# Altium integrated library Maxim Real-Time Clocks (RTCs).IntLib: 548 symbols (part 5 of 13)
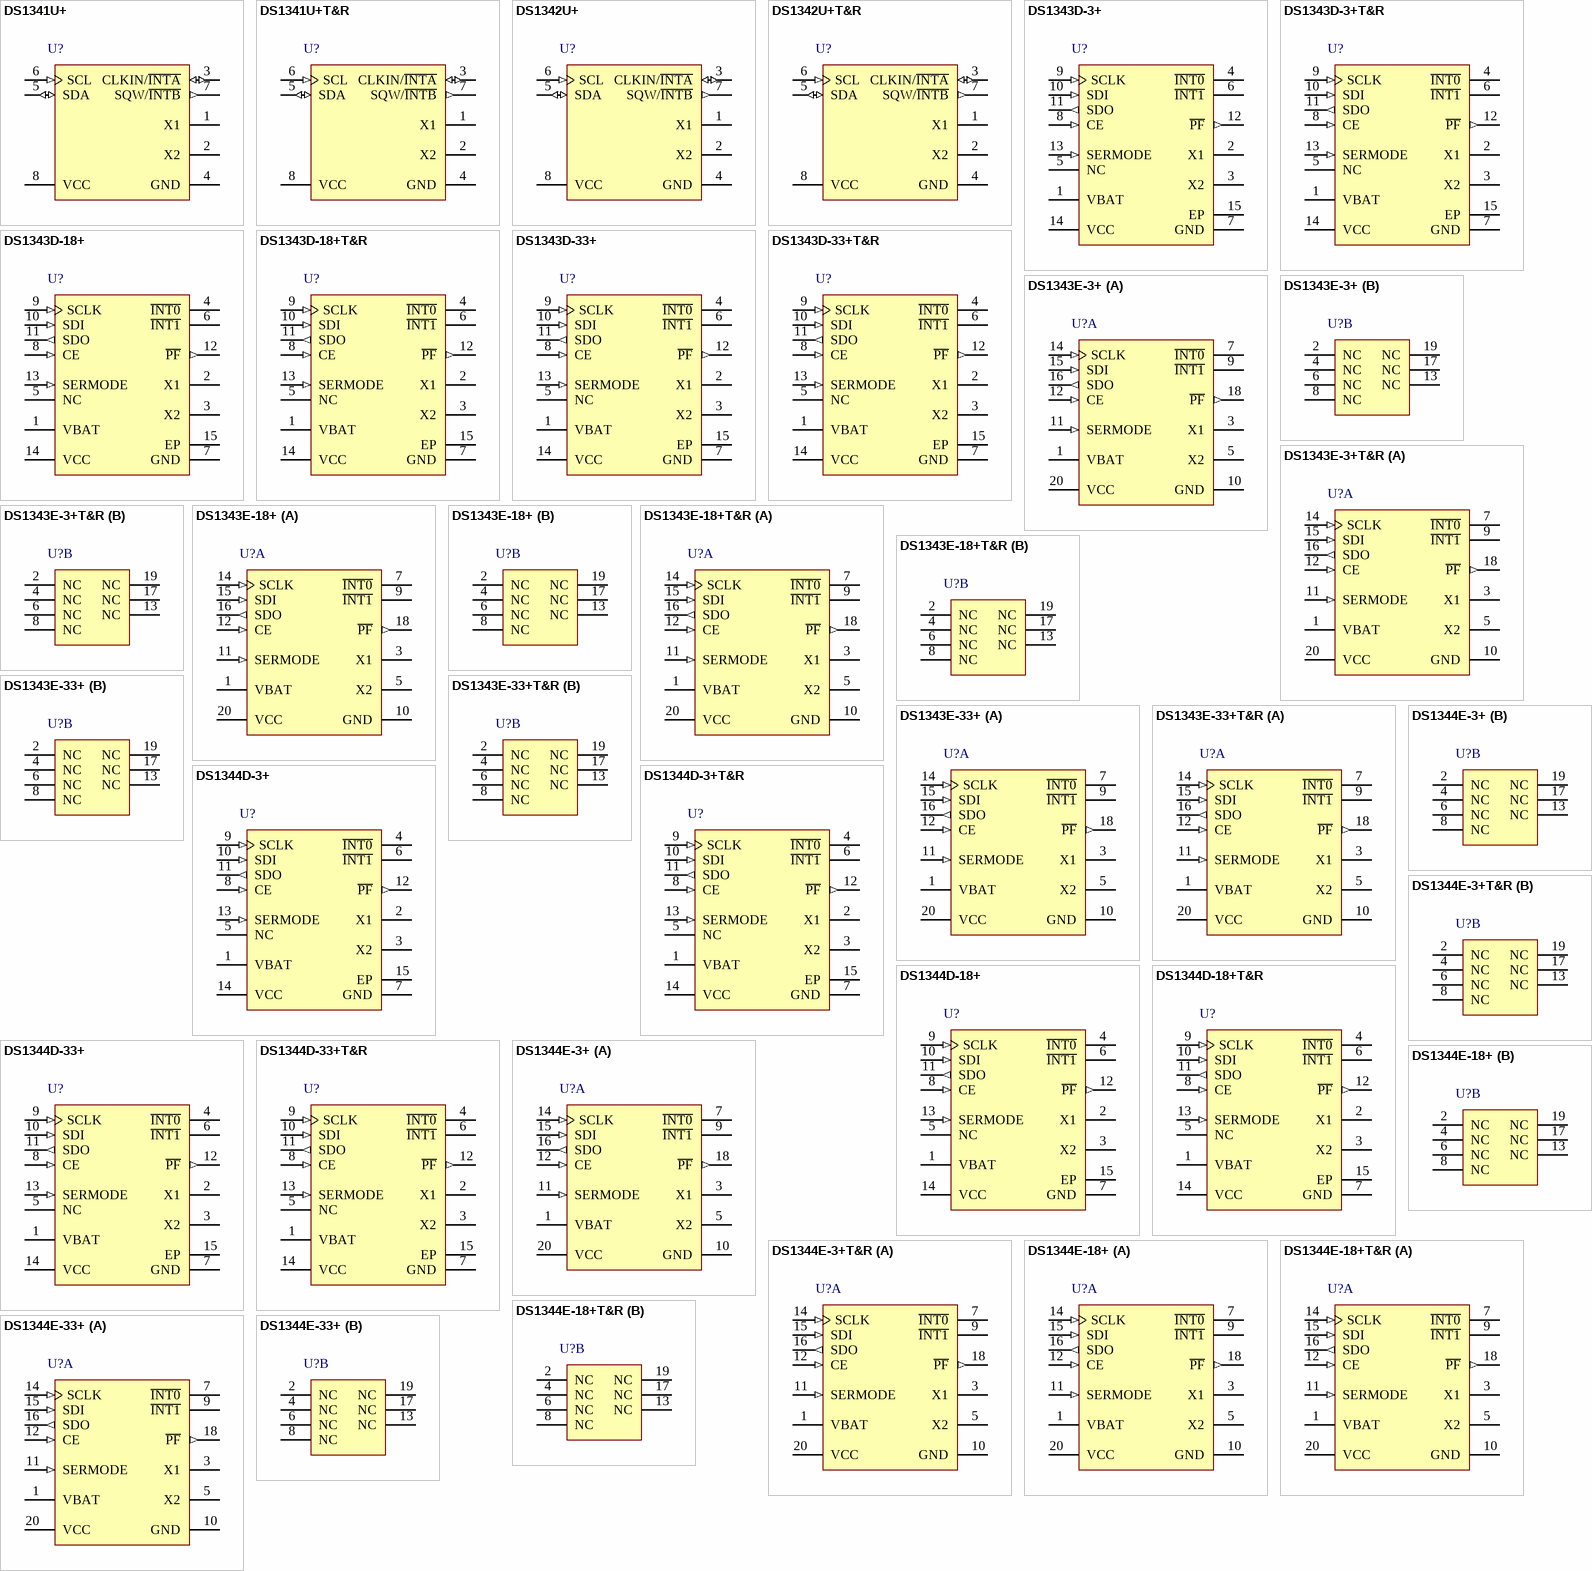
[diagram p25: symbols DS1341U+ to DS1344E-33+]

## DS1344D-18+
designator U?
Low-Current SPI/3-Wire Real-Time Clock, 1.8V, 14-Pin TDFN-EP, -40 to 85 degC, Pb-Free; DatasheetVersion: Rev 1, Dec-2011; PackageVersion: revJ, 2009; PackageReference: T1433+2; PackageDescription: 14-Pin Plastic Very Very Thin Dual Flatpack No Leads (TDFN-EP), 3 x 3 x 0.8 mm Body, 0.4 mm Pitch, Pb-Free; ComponentLink1Description: Manufacturer URL; ComponentLink1URL: http://www.maxim-ic.com; ComponentLink2Description: Datasheet; ComponentLink2URL: http://datasheets.maxim-ic.com/en/ds/DS1343-DS1344.pdf; ComponentLink3Description: Package Specification; ComponentLink3URL: http://pdfserv.maxim-ic.com/package_dwgs/21-0137.PDF
footprint T1433+2_V (SON, 14-Leads, Body 3x3mm, Pitch 0.4mm, Thermal Pad 2.35x1.78mm, Maxim Recommended)
pins: 1 VBAT (power), 2 X1, 3 X2, 4 ~{INT0} (oc), 5 NC, 6 ~{INT1} (oc), 7 GND (power), 8 CE (in), 9 SCLK (in), 10 SDI (in), 11 SDO (out), 12 ~{PF} (out), 13 SERMODE (in), 14 VCC (power), 15 EP (power)

## DS1344D-18+T&R
designator U?
Low-Current SPI/3-Wire Real-Time Clock, 1.8V, 14-Pin TDFN-EP, -40 to 85 degC, Pb-Free, Reel; DatasheetVersion: Rev 1, Dec-2011; PackageVersion: revJ, 2009; PackageReference: T1433+2; PackageDescription: 14-Pin Plastic Very Very Thin Dual Flatpack No Leads (TDFN-EP), 3 x 3 x 0.8 mm Body, 0.4 mm Pitch, Pb-Free; ComponentLink1Description: Manufacturer URL; ComponentLink1URL: http://www.maxim-ic.com; ComponentLink2Description: Datasheet; ComponentLink2URL: http://datasheets.maxim-ic.com/en/ds/DS1343-DS1344.pdf; ComponentLink3Description: Package Specification; ComponentLink3URL: http://pdfserv.maxim-ic.com/package_dwgs/21-0137.PDF
footprint T1433+2_V (SON, 14-Leads, Body 3x3mm, Pitch 0.4mm, Thermal Pad 2.35x1.78mm, Maxim Recommended)
pins: 1 VBAT (power), 2 X1, 3 X2, 4 ~{INT0} (oc), 5 NC, 6 ~{INT1} (oc), 7 GND (power), 8 CE (in), 9 SCLK (in), 10 SDI (in), 11 SDO (out), 12 ~{PF} (out), 13 SERMODE (in), 14 VCC (power), 15 EP (power)

## DS1344D-33+
designator U?
Low-Current SPI/3-Wire Real-Time Clock, 3.3V, 14-Pin TDFN-EP, -40 to 85 degC, Pb-Free; DatasheetVersion: Rev 1, Dec-2011; PackageVersion: revJ, 2009; PackageReference: T1433+2; PackageDescription: 14-Pin Plastic Very Very Thin Dual Flatpack No Leads (TDFN-EP), 3 x 3 x 0.8 mm Body, 0.4 mm Pitch, Pb-Free; ComponentLink1Description: Manufacturer URL; ComponentLink1URL: http://www.maxim-ic.com; ComponentLink2Description: Datasheet; ComponentLink2URL: http://datasheets.maxim-ic.com/en/ds/DS1343-DS1344.pdf; ComponentLink3Description: Package Specification; ComponentLink3URL: http://pdfserv.maxim-ic.com/package_dwgs/21-0137.PDF
footprint T1433+2_V (SON, 14-Leads, Body 3x3mm, Pitch 0.4mm, Thermal Pad 2.35x1.78mm, Maxim Recommended)
pins: 1 VBAT (power), 2 X1, 3 X2, 4 ~{INT0} (oc), 5 NC, 6 ~{INT1} (oc), 7 GND (power), 8 CE (in), 9 SCLK (in), 10 SDI (in), 11 SDO (out), 12 ~{PF} (out), 13 SERMODE (in), 14 VCC (power), 15 EP (power)

## DS1344D-33+T&R
designator U?
Low-Current SPI/3-Wire Real-Time Clock, 3.3V, 14-Pin TDFN-EP, -40 to 85 degC, Pb-Free, Reel; DatasheetVersion: Rev 1, Dec-2011; PackageVersion: revJ, 2009; PackageReference: T1433+2; PackageDescription: 14-Pin Plastic Very Very Thin Dual Flatpack No Leads (TDFN-EP), 3 x 3 x 0.8 mm Body, 0.4 mm Pitch, Pb-Free; ComponentLink1Description: Manufacturer URL; ComponentLink1URL: http://www.maxim-ic.com; ComponentLink2Description: Datasheet; ComponentLink2URL: http://datasheets.maxim-ic.com/en/ds/DS1343-DS1344.pdf; ComponentLink3Description: Package Specification; ComponentLink3URL: http://pdfserv.maxim-ic.com/package_dwgs/21-0137.PDF
footprint T1433+2_V (SON, 14-Leads, Body 3x3mm, Pitch 0.4mm, Thermal Pad 2.35x1.78mm, Maxim Recommended)
pins: 1 VBAT (power), 2 X1, 3 X2, 4 ~{INT0} (oc), 5 NC, 6 ~{INT1} (oc), 7 GND (power), 8 CE (in), 9 SCLK (in), 10 SDI (in), 11 SDO (out), 12 ~{PF} (out), 13 SERMODE (in), 14 VCC (power), 15 EP (power)

## DS1344E-3+
designator U?
Low-Current SPI/3-Wire Real-Time Clock, 3.0V, 20-Pin TSSOP, -40 to 85 degC, Pb-Free; DatasheetVersion: Rev 1, Dec-2011; PackageVersion: revL, 2010; PackageReference: U20+1; PackageDescription: 20-Pin Thin Shrink Small-Outline Package, 4.4 mm Body, TSSOP, Pb-Free; Code_JEDEC: MO-153-AC; ComponentLink1Description: Manufacturer URL; ComponentLink1URL: http://www.maxim-ic.com; ComponentLink2Description: Datasheet; ComponentLink2URL: http://datasheets.maxim-ic.com/en/ds/DS1343-DS1344.pdf; ComponentLink3Description: Package Specification; ComponentLink3URL: http://pdfserv.maxim-ic.com/package_dwgs/21-0066.PDF
footprint U20+1_N (TSOP, 20-Leads, Body 6.5x4.4mm, Pitch 0.65mm, IPC Medium Density)
footprint U20+1_L (TSOP, 20-Leads, Body 6.5x4.4mm, Pitch 0.65mm, IPC High Density)
footprint U20+1_M (TSOP, 20-Leads, Body 6.5x4.4mm, Pitch 0.65mm, IPC Low Density)
part A pins: 1 VBAT (power), 3 X1, 5 X2, 7 ~{INT0} (oc), 9 ~{INT1} (oc), 10 GND (power), 11 SERMODE (in), 12 CE (in), 14 SCLK (in), 15 SDI (in), 16 SDO (out), 18 ~{PF} (out), 20 VCC (power)
part B pins: 2 NC, 4 NC, 6 NC, 8 NC, 13 NC, 17 NC, 19 NC

## DS1344E-3+T&R
designator U?
Low-Current SPI/3-Wire Real-Time Clock, 3.0V, 20-Pin TSSOP, -40 to 85 degC, Pb-Free, Reel; DatasheetVersion: Rev 1, Dec-2011; PackageVersion: revL, 2010; PackageReference: U20+1; PackageDescription: 20-Pin Thin Shrink Small-Outline Package, 4.4 mm Body, TSSOP, Pb-Free; Code_JEDEC: MO-153-AC; ComponentLink1Description: Manufacturer URL; ComponentLink1URL: http://www.maxim-ic.com; ComponentLink2Description: Datasheet; ComponentLink2URL: http://datasheets.maxim-ic.com/en/ds/DS1343-DS1344.pdf; ComponentLink3Description: Package Specification; ComponentLink3URL: http://pdfserv.maxim-ic.com/package_dwgs/21-0066.PDF
footprint U20+1_N (TSOP, 20-Leads, Body 6.5x4.4mm, Pitch 0.65mm, IPC Medium Density)
footprint U20+1_L (TSOP, 20-Leads, Body 6.5x4.4mm, Pitch 0.65mm, IPC High Density)
footprint U20+1_M (TSOP, 20-Leads, Body 6.5x4.4mm, Pitch 0.65mm, IPC Low Density)
part A pins: 1 VBAT (power), 3 X1, 5 X2, 7 ~{INT0} (oc), 9 ~{INT1} (oc), 10 GND (power), 11 SERMODE (in), 12 CE (in), 14 SCLK (in), 15 SDI (in), 16 SDO (out), 18 ~{PF} (out), 20 VCC (power)
part B pins: 2 NC, 4 NC, 6 NC, 8 NC, 13 NC, 17 NC, 19 NC

## DS1344E-18+
designator U?
Low-Current SPI/3-Wire Real-Time Clock, 1.8V, 20-Pin TSSOP, -40 to 85 degC, Pb-Free; DatasheetVersion: Rev 1, Dec-2011; PackageVersion: revL, 2010; PackageReference: U20+1; PackageDescription: 20-Pin Thin Shrink Small-Outline Package, 4.4 mm Body, TSSOP, Pb-Free; Code_JEDEC: MO-153-AC; ComponentLink1Description: Manufacturer URL; ComponentLink1URL: http://www.maxim-ic.com; ComponentLink2Description: Datasheet; ComponentLink2URL: http://datasheets.maxim-ic.com/en/ds/DS1343-DS1344.pdf; ComponentLink3Description: Package Specification; ComponentLink3URL: http://pdfserv.maxim-ic.com/package_dwgs/21-0066.PDF
footprint U20+1_N (TSOP, 20-Leads, Body 6.5x4.4mm, Pitch 0.65mm, IPC Medium Density)
footprint U20+1_L (TSOP, 20-Leads, Body 6.5x4.4mm, Pitch 0.65mm, IPC High Density)
footprint U20+1_M (TSOP, 20-Leads, Body 6.5x4.4mm, Pitch 0.65mm, IPC Low Density)
part A pins: 1 VBAT (power), 3 X1, 5 X2, 7 ~{INT0} (oc), 9 ~{INT1} (oc), 10 GND (power), 11 SERMODE (in), 12 CE (in), 14 SCLK (in), 15 SDI (in), 16 SDO (out), 18 ~{PF} (out), 20 VCC (power)
part B pins: 2 NC, 4 NC, 6 NC, 8 NC, 13 NC, 17 NC, 19 NC

## DS1344E-18+T&R
designator U?
Low-Current SPI/3-Wire Real-Time Clock, 1.8V, 20-Pin TSSOP, -40 to 85 degC, Pb-Free, Reel; DatasheetVersion: Rev 1, Dec-2011; PackageVersion: revL, 2010; PackageReference: U20+1; PackageDescription: 20-Pin Thin Shrink Small-Outline Package, 4.4 mm Body, TSSOP, Pb-Free; Code_JEDEC: MO-153-AC; ComponentLink1Description: Manufacturer URL; ComponentLink1URL: http://www.maxim-ic.com; ComponentLink2Description: Datasheet; ComponentLink2URL: http://datasheets.maxim-ic.com/en/ds/DS1343-DS1344.pdf; ComponentLink3Description: Package Specification; ComponentLink3URL: http://pdfserv.maxim-ic.com/package_dwgs/21-0066.PDF
footprint U20+1_N (TSOP, 20-Leads, Body 6.5x4.4mm, Pitch 0.65mm, IPC Medium Density)
footprint U20+1_L (TSOP, 20-Leads, Body 6.5x4.4mm, Pitch 0.65mm, IPC High Density)
footprint U20+1_M (TSOP, 20-Leads, Body 6.5x4.4mm, Pitch 0.65mm, IPC Low Density)
part A pins: 1 VBAT (power), 3 X1, 5 X2, 7 ~{INT0} (oc), 9 ~{INT1} (oc), 10 GND (power), 11 SERMODE (in), 12 CE (in), 14 SCLK (in), 15 SDI (in), 16 SDO (out), 18 ~{PF} (out), 20 VCC (power)
part B pins: 2 NC, 4 NC, 6 NC, 8 NC, 13 NC, 17 NC, 19 NC

## DS1344E-33+
designator U?
Low-Current SPI/3-Wire Real-Time Clock, 3.3V, 20-Pin TSSOP, -40 to 85 degC, Pb-Free; DatasheetVersion: Rev 1, Dec-2011; PackageVersion: revL, 2010; PackageReference: U20+1; PackageDescription: 20-Pin Thin Shrink Small-Outline Package, 4.4 mm Body, TSSOP, Pb-Free; Code_JEDEC: MO-153-AC; ComponentLink1Description: Manufacturer URL; ComponentLink1URL: http://www.maxim-ic.com; ComponentLink2Description: Datasheet; ComponentLink2URL: http://datasheets.maxim-ic.com/en/ds/DS1343-DS1344.pdf; ComponentLink3Description: Package Specification; ComponentLink3URL: http://pdfserv.maxim-ic.com/package_dwgs/21-0066.PDF
footprint U20+1_N (TSOP, 20-Leads, Body 6.5x4.4mm, Pitch 0.65mm, IPC Medium Density)
footprint U20+1_L (TSOP, 20-Leads, Body 6.5x4.4mm, Pitch 0.65mm, IPC High Density)
footprint U20+1_M (TSOP, 20-Leads, Body 6.5x4.4mm, Pitch 0.65mm, IPC Low Density)
part A pins: 1 VBAT (power), 3 X1, 5 X2, 7 ~{INT0} (oc), 9 ~{INT1} (oc), 10 GND (power), 11 SERMODE (in), 12 CE (in), 14 SCLK (in), 15 SDI (in), 16 SDO (out), 18 ~{PF} (out), 20 VCC (power)
part B pins: 2 NC, 4 NC, 6 NC, 8 NC, 13 NC, 17 NC, 19 NC

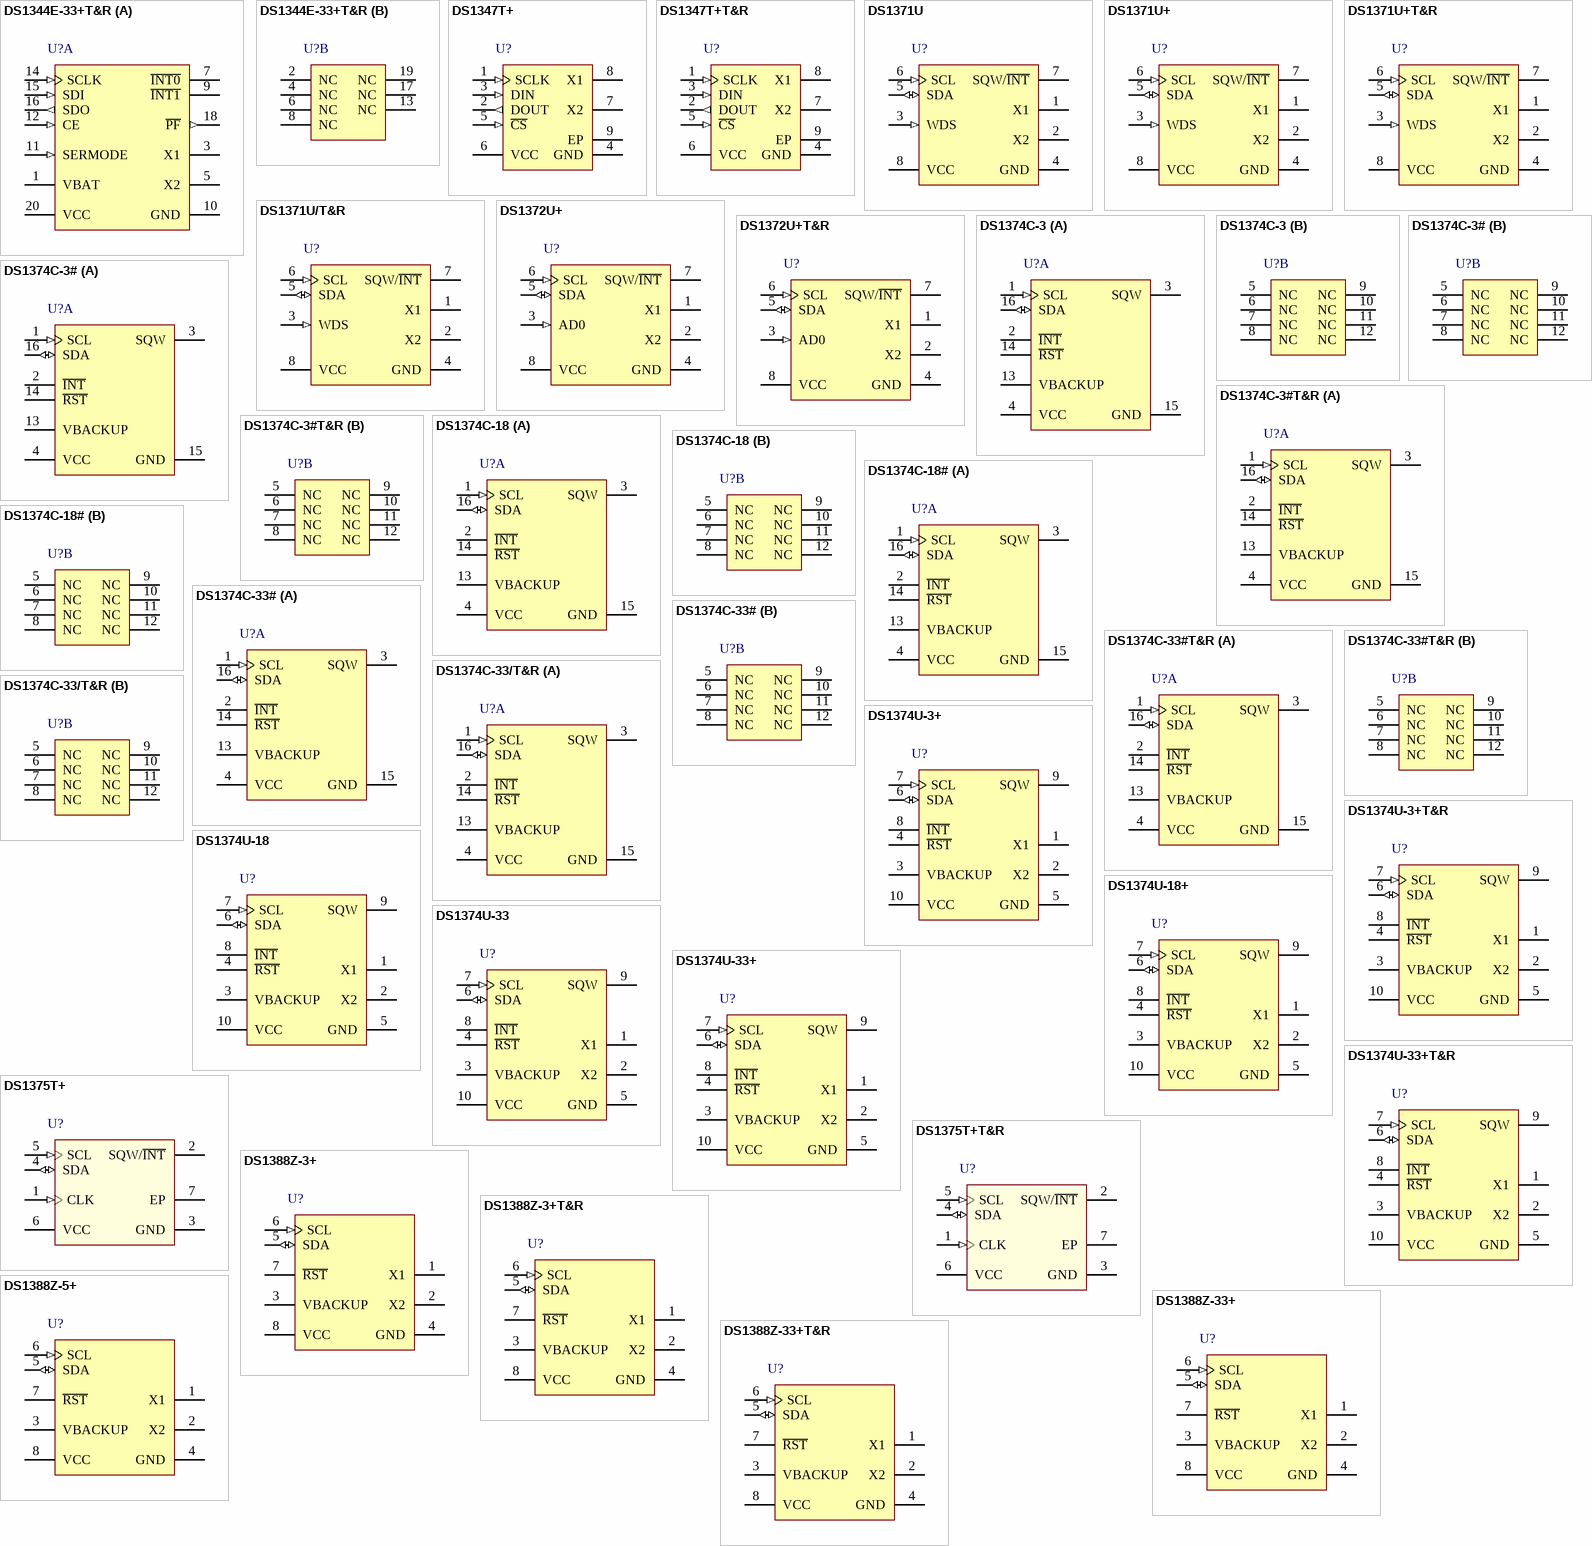
[diagram p7: symbols DS1344E-33+T&R to DS1388Z-33+T&R]

## DS1344E-33+T&R
designator U?
Low-Current SPI/3-Wire Real-Time Clock, 3.3V, 20-Pin TSSOP, -40 to 85 degC, Pb-Free, Reel; DatasheetVersion: Rev 1, Dec-2011; PackageVersion: revL, 2010; PackageReference: U20+1; PackageDescription: 20-Pin Thin Shrink Small-Outline Package, 4.4 mm Body, TSSOP, Pb-Free; Code_JEDEC: MO-153-AC; ComponentLink1Description: Manufacturer URL; ComponentLink1URL: http://www.maxim-ic.com; ComponentLink2Description: Datasheet; ComponentLink2URL: http://datasheets.maxim-ic.com/en/ds/DS1343-DS1344.pdf; ComponentLink3Description: Package Specification; ComponentLink3URL: http://pdfserv.maxim-ic.com/package_dwgs/21-0066.PDF
footprint U20+1_N (TSOP, 20-Leads, Body 6.5x4.4mm, Pitch 0.65mm, IPC Medium Density)
footprint U20+1_L (TSOP, 20-Leads, Body 6.5x4.4mm, Pitch 0.65mm, IPC High Density)
footprint U20+1_M (TSOP, 20-Leads, Body 6.5x4.4mm, Pitch 0.65mm, IPC Low Density)
part A pins: 1 VBAT (power), 3 X1, 5 X2, 7 ~{INT0} (oc), 9 ~{INT1} (oc), 10 GND (power), 11 SERMODE (in), 12 CE (in), 14 SCLK (in), 15 SDI (in), 16 SDO (out), 18 ~{PF} (out), 20 VCC (power)
part B pins: 2 NC, 4 NC, 6 NC, 8 NC, 13 NC, 17 NC, 19 NC

## DS1347T+
designator U?
Low-Current, SPI-Compatible Real-Time Clock, 2.0 to 5.5V, 8-Pin TDFN-EP, -40 to 85 degC, Pb-Free; DatasheetVersion: rev2, Feb-2012; PackageVersion: revJ, 2009; PackageReference: T833+2; PackageDescription: 8-Pin Plastic Very Very Thin Dual Flatpack No Leads, Exposed Pad, 3 x 3 x 0.8 mm Body, TDFN-EP, Pb-Free; Code_JEDEC: MO-229-WEEC; ComponentLink1Description: Manufacturer URL; ComponentLink1URL: http://www.maxim-ic.com; ComponentLink2Description: Datasheet; ComponentLink2URL: http://datasheets.maxim-ic.com/en/ds/DS1347.pdf; ComponentLink3Description: Package Specification; ComponentLink3URL: http://pdfserv.maxim-ic.com/package_dwgs/21-0137.PDF
footprint T833+2 (SON, 8-Leads, Body 3x3 mm, Pitch 0.65mm, Thermal Pad 2.35x1.58mm, Maxim Recommended)
pins: 1 SCLK (in), 2 DOUT (out), 3 DIN (in), 4 GND (power), 5 ~{CS} (in), 6 VCC (power), 7 X2, 8 X1, 9 EP (power)

## DS1347T+T&R
designator U?
Low-Current, SPI-Compatible Real-Time Clock, 2.0 to 5.5V, 8-Pin TDFN-EP, -40 to 85 degC, Pb-Free, Reel; DatasheetVersion: rev2, Feb-2012; PackageVersion: revJ, 2009; PackageReference: T833+2; PackageDescription: 8-Pin Plastic Very Very Thin Dual Flatpack No Leads, Exposed Pad, 3 x 3 x 0.8 mm Body, TDFN-EP, Pb-Free; Code_JEDEC: MO-229-WEEC; ComponentLink1Description: Manufacturer URL; ComponentLink1URL: http://www.maxim-ic.com; ComponentLink2Description: Datasheet; ComponentLink2URL: http://datasheets.maxim-ic.com/en/ds/DS1347.pdf; ComponentLink3Description: Package Specification; ComponentLink3URL: http://pdfserv.maxim-ic.com/package_dwgs/21-0137.PDF
footprint T833+2 (SON, 8-Leads, Body 3x3 mm, Pitch 0.65mm, Thermal Pad 2.35x1.58mm, Maxim Recommended)
pins: 1 SCLK (in), 2 DOUT (out), 3 DIN (in), 4 GND (power), 5 ~{CS} (in), 6 VCC (power), 7 X2, 8 X1, 9 EP (power)

## DS1371U
designator U?
I2C, 32-bit Binary Counter Watchdog Real-Time Clock, 8-Pin uSOP, -40 to 85 degC; DatasheetVersion: 6-Jul-2007; PackageVersion: revL, 2009; PackageReference: U8-1; PackageDescription: 8-Pin Micro-MAX, Thin Shrink Small-Outline, 0.65 mm Pitch, uMAX, uSOP; Code_JEDEC: MO-187-AA; ComponentLink1Description: Manufacturer URL; ComponentLink1URL: http://www.maxim-ic.com; ComponentLink2Description: Datasheet; ComponentLink2URL: http://datasheets.maxim-ic.com/en/ds/DS1371.pdf; ComponentLink3Description: Package Specification; ComponentLink3URL: http://pdfserv.maxim-ic.com/package_dwgs/21-0036.PDF
footprint U8-1_N (TSOP, 8-Leads, Body 3x3mm, Pitch 0.65mm, IPC Medium Density)
footprint U8-1_L (TSOP, 8-Leads, Body 3x3mm, Pitch 0.65mm, IPC High Density)
footprint U8-1_M (TSOP, 8-Leads, Body 3x3mm, Pitch 0.65mm, IPC Low Density)
pins: 1 X1, 2 X2, 3 WDS (in), 4 GND (power), 5 SDA (io), 6 SCL (in), 7 SQW/~{INT} (oc), 8 VCC (power)

## DS1371U+
designator U?
I2C, 32-bit Binary Counter Watchdog Real-Time Clock, 8-Pin uSOP, -40 to 85 degC, Pb-Free; DatasheetVersion: 6-Jul-2007; PackageVersion: revL, 2009; PackageReference: U8+1; PackageDescription: 8-Pin Micro-MAX, Thin Shrink Small-Outline, 0.65 mm Pitch, uMAX, uSOP, Pb-Free; Code_JEDEC: MO-187-AA; ComponentLink1Description: Manufacturer URL; ComponentLink1URL: http://www.maxim-ic.com; ComponentLink2Description: Datasheet; ComponentLink2URL: http://datasheets.maxim-ic.com/en/ds/DS1371.pdf; ComponentLink3Description: Package Specification; ComponentLink3URL: http://pdfserv.maxim-ic.com/package_dwgs/21-0036.PDF
footprint U8+1_N (TSOP, 8-Leads, Body 3x3mm, Pitch 0.65mm, IPC Medium Density)
footprint U8+1_L (TSOP, 8-Leads, Body 3x3mm, Pitch 0.65mm, IPC High Density)
footprint U8+1_M (TSOP, 8-Leads, Body 3x3mm, Pitch 0.65mm, IPC Low Density)
pins: 1 X1, 2 X2, 3 WDS (in), 4 GND (power), 5 SDA (io), 6 SCL (in), 7 SQW/~{INT} (oc), 8 VCC (power)

## DS1371U+T&R
designator U?
I2C, 32-bit Binary Counter Watchdog Real-Time Clock, 8-Pin uSOP, -40 to 85 degC, Pb-Free, Reel; DatasheetVersion: 6-Jul-2007; PackageVersion: revL, 2009; PackageReference: U8+1; PackageDescription: 8-Pin Micro-MAX, Thin Shrink Small-Outline, 0.65 mm Pitch, uMAX, uSOP, Pb-Free; Code_JEDEC: MO-187-AA; ComponentLink1Description: Manufacturer URL; ComponentLink1URL: http://www.maxim-ic.com; ComponentLink2Description: Datasheet; ComponentLink2URL: http://datasheets.maxim-ic.com/en/ds/DS1371.pdf; ComponentLink3Description: Package Specification; ComponentLink3URL: http://pdfserv.maxim-ic.com/package_dwgs/21-0036.PDF
footprint U8+1_N (TSOP, 8-Leads, Body 3x3mm, Pitch 0.65mm, IPC Medium Density)
footprint U8+1_L (TSOP, 8-Leads, Body 3x3mm, Pitch 0.65mm, IPC High Density)
footprint U8+1_M (TSOP, 8-Leads, Body 3x3mm, Pitch 0.65mm, IPC Low Density)
pins: 1 X1, 2 X2, 3 WDS (in), 4 GND (power), 5 SDA (io), 6 SCL (in), 7 SQW/~{INT} (oc), 8 VCC (power)

## DS1371U/T&R
designator U?
I2C, 32-bit Binary Counter Watchdog Real-Time Clock, 8-Pin uSOP, -40 to 85 degC, Reel; DatasheetVersion: 6-Jul-2007; PackageVersion: revL, 2009; PackageReference: U8-1; PackageDescription: 8-Pin Micro-MAX, Thin Shrink Small-Outline, 0.65 mm Pitch, uMAX, uSOP; Code_JEDEC: MO-187-AA; ComponentLink1Description: Manufacturer URL; ComponentLink1URL: http://www.maxim-ic.com; ComponentLink2Description: Datasheet; ComponentLink2URL: http://datasheets.maxim-ic.com/en/ds/DS1371.pdf; ComponentLink3Description: Package Specification; ComponentLink3URL: http://pdfserv.maxim-ic.com/package_dwgs/21-0036.PDF
footprint U8-1_N (TSOP, 8-Leads, Body 3x3mm, Pitch 0.65mm, IPC Medium Density)
footprint U8-1_L (TSOP, 8-Leads, Body 3x3mm, Pitch 0.65mm, IPC High Density)
footprint U8-1_M (TSOP, 8-Leads, Body 3x3mm, Pitch 0.65mm, IPC Low Density)
pins: 1 X1, 2 X2, 3 WDS (in), 4 GND (power), 5 SDA (io), 6 SCL (in), 7 SQW/~{INT} (oc), 8 VCC (power)

## DS1372U+
designator U?
I2C, 32-bit Binary Counter Watchdog Real-Time Clock, 64-Bit ID, 8-Pin uSOP, -40 to 85 degC, Pb-Free; DatasheetVersion: rev0, Jul-2007; PackageVersion: revL, 2009; PackageReference: U8+1; PackageDescription: 8-Pin Micro-MAX, Thin Shrink Small-Outline, 0.65 mm Pitch, uMAX, uSOP, Pb-Free; Code_JEDEC: MO-187-AA; ComponentLink1Description: Manufacturer URL; ComponentLink1URL: http://www.maxim-ic.com; ComponentLink2Description: Datasheet; ComponentLink2URL: http://datasheets.maxim-ic.com/en/ds/DS1372.pdf; ComponentLink3Description: Package Specification; ComponentLink3URL: http://pdfserv.maxim-ic.com/package_dwgs/21-0036.PDF
footprint U8+1_N (TSOP, 8-Leads, Body 3x3mm, Pitch 0.65mm, IPC Medium Density)
footprint U8+1_L (TSOP, 8-Leads, Body 3x3mm, Pitch 0.65mm, IPC High Density)
footprint U8+1_M (TSOP, 8-Leads, Body 3x3mm, Pitch 0.65mm, IPC Low Density)
pins: 1 X1, 2 X2, 3 AD0 (in), 4 GND (power), 5 SDA (io), 6 SCL (in), 7 SQW/~{INT} (oc), 8 VCC (power)

## DS1372U+T&R
designator U?
I2C, 32-bit Binary Counter Watchdog Real-Time Clock, 64-Bit ID, 8-Pin uSOP, -40 to 85 degC, Pb-Free, Reel; DatasheetVersion: rev0, Jul-2007; PackageVersion: revL, 2009; PackageReference: U8+1; PackageDescription: 8-Pin Micro-MAX, Thin Shrink Small-Outline, 0.65 mm Pitch, uMAX, uSOP, Pb-Free; Code_JEDEC: MO-187-AA; ComponentLink1Description: Manufacturer URL; ComponentLink1URL: http://www.maxim-ic.com; ComponentLink2Description: Datasheet; ComponentLink2URL: http://datasheets.maxim-ic.com/en/ds/DS1372.pdf; ComponentLink3Description: Package Specification; ComponentLink3URL: http://pdfserv.maxim-ic.com/package_dwgs/21-0036.PDF
footprint U8+1_N (TSOP, 8-Leads, Body 3x3mm, Pitch 0.65mm, IPC Medium Density)
footprint U8+1_L (TSOP, 8-Leads, Body 3x3mm, Pitch 0.65mm, IPC High Density)
footprint U8+1_M (TSOP, 8-Leads, Body 3x3mm, Pitch 0.65mm, IPC Low Density)
pins: 1 X1, 2 X2, 3 AD0 (in), 4 GND (power), 5 SDA (io), 6 SCL (in), 7 SQW/~{INT} (oc), 8 VCC (power)

## DS1374C-3
designator U?
I2C, 32-Bit Binary Counter Watchdog Real-Time Clock, Trickle Charger, Reset Input/Output, 3.0V, 16-Pin SO, -40 to 85 degC; DatasheetVersion: rev4, Aug-2010; PackageVersion: revD, 2010; PackageReference: W16-H2; PackageDescription: 16-Pin Small-Outline IC, Wide (0.3in), 1.27 mm Pitch, SOIC (W); Code_JEDEC: MS-013-AA; Code_IPC: SOIC127P1030-16; ComponentLink1Description: Manufacturer URL; ComponentLink1URL: http://www.maxim-ic.com; ComponentLink2Description: Datasheet; ComponentLink2URL: http://datasheets.maxim-ic.com/en/ds/DS1374-DS1374U.pdf; ComponentLink3Description: Package Specification; ComponentLink3URL: http://pdfserv.maxim-ic.com/package_dwgs/21-0042.PDF
footprint W16-H2_N (SOIC, 16-Leads, Body 10.3x7.5mm, Pitch 1.27mm, IPC Medium Density)
footprint W16-H2_L (SOIC, 16-Leads, Body 10.3x7.5mm, Pitch 1.27mm, IPC High Density)
footprint W16-H2_M (SOIC, 16-Leads, Body 10.3x7.5mm, Pitch 1.27mm, IPC Low Density)
part A pins: 1 SCL (in), 2 ~{INT} (oc), 3 SQW (oc), 4 VCC (power), 13 VBACKUP (power), 14 ~{RST} (oc), 15 GND (power), 16 SDA  (io)
part B pins: 5 NC, 6 NC, 7 NC, 8 NC, 9 NC, 10 NC, 11 NC, 12 NC

## DS1374C-3#
designator U?
I2C, 32-Bit Binary Counter Watchdog Real-Time Clock, Trickle Charger, Reset Input/Output, 3.0V, 16-Pin SO, -40 to 85 degC, RoHS Qualified; DatasheetVersion: rev4, Aug-2010; PackageVersion: revD, 2010; PackageReference: W16#H2; PackageDescription: 16-Pin Small-Outline IC, Wide (0.3in), 1.27 mm Pitch, SOIC (W), RoHS Qualified; Code_JEDEC: MS-013-AA; Code_IPC: SOIC127P1030-16; ComponentLink1Description: Manufacturer URL; ComponentLink1URL: http://www.maxim-ic.com; ComponentLink2Description: Datasheet; ComponentLink2URL: http://datasheets.maxim-ic.com/en/ds/DS1374-DS1374U.pdf; ComponentLink3Description: Package Specification; ComponentLink3URL: http://pdfserv.maxim-ic.com/package_dwgs/21-0042.PDF
footprint W16#H2_N (SOIC, 16-Leads, Body 10.3x7.5mm, Pitch 1.27mm, IPC Medium Density)
footprint W16#H2_L (SOIC, 16-Leads, Body 10.3x7.5mm, Pitch 1.27mm, IPC High Density)
footprint W16#H2_M (SOIC, 16-Leads, Body 10.3x7.5mm, Pitch 1.27mm, IPC Low Density)
part A pins: 1 SCL (in), 2 ~{INT} (oc), 3 SQW (oc), 4 VCC (power), 13 VBACKUP (power), 14 ~{RST} (oc), 15 GND (power), 16 SDA  (io)
part B pins: 5 NC, 6 NC, 7 NC, 8 NC, 9 NC, 10 NC, 11 NC, 12 NC

## DS1374C-3#T&R
designator U?
I2C, 32-Bit Binary Counter Watchdog Real-Time Clock, Trickle Charger, Reset Input/Output, 3.0V, 16-Pin SO, -40 to 85 degC, RoHS Qualified, Reel; DatasheetVersion: rev4, Aug-2010; PackageVersion: revD, 2010; PackageReference: W16#H2; PackageDescription: 16-Pin Small-Outline IC, Wide (0.3in), 1.27 mm Pitch, SOIC (W), RoHS Qualified; Code_JEDEC: MS-013-AA; Code_IPC: SOIC127P1030-16; ComponentLink1Description: Manufacturer URL; ComponentLink1URL: http://www.maxim-ic.com; ComponentLink2Description: Datasheet; ComponentLink2URL: http://datasheets.maxim-ic.com/en/ds/DS1374-DS1374U.pdf; ComponentLink3Description: Package Specification; ComponentLink3URL: http://pdfserv.maxim-ic.com/package_dwgs/21-0042.PDF
footprint W16#H2_N (SOIC, 16-Leads, Body 10.3x7.5mm, Pitch 1.27mm, IPC Medium Density)
footprint W16#H2_L (SOIC, 16-Leads, Body 10.3x7.5mm, Pitch 1.27mm, IPC High Density)
footprint W16#H2_M (SOIC, 16-Leads, Body 10.3x7.5mm, Pitch 1.27mm, IPC Low Density)
part A pins: 1 SCL (in), 2 ~{INT} (oc), 3 SQW (oc), 4 VCC (power), 13 VBACKUP (power), 14 ~{RST} (oc), 15 GND (power), 16 SDA  (io)
part B pins: 5 NC, 6 NC, 7 NC, 8 NC, 9 NC, 10 NC, 11 NC, 12 NC

## DS1374C-18
designator U?
I2C, 32-Bit Binary Counter Watchdog Real-Time Clock, Trickle Charger, Reset Input/Output, 1.8V, 16-Pin SO, -40 to 85 degC; DatasheetVersion: rev4, Aug-2010; PackageVersion: revD, 2010; PackageReference: W16-H2; PackageDescription: 16-Pin Small-Outline IC, Wide (0.3in), 1.27 mm Pitch, SOIC (W); Code_JEDEC: MS-013-AA; Code_IPC: SOIC127P1030-16; ComponentLink1Description: Manufacturer URL; ComponentLink1URL: http://www.maxim-ic.com; ComponentLink2Description: Datasheet; ComponentLink2URL: http://datasheets.maxim-ic.com/en/ds/DS1374-DS1374U.pdf; ComponentLink3Description: Package Specification; ComponentLink3URL: http://pdfserv.maxim-ic.com/package_dwgs/21-0042.PDF
footprint W16-H2_N (SOIC, 16-Leads, Body 10.3x7.5mm, Pitch 1.27mm, IPC Medium Density)
footprint W16-H2_L (SOIC, 16-Leads, Body 10.3x7.5mm, Pitch 1.27mm, IPC High Density)
footprint W16-H2_M (SOIC, 16-Leads, Body 10.3x7.5mm, Pitch 1.27mm, IPC Low Density)
part A pins: 1 SCL (in), 2 ~{INT} (oc), 3 SQW (oc), 4 VCC (power), 13 VBACKUP (power), 14 ~{RST} (oc), 15 GND (power), 16 SDA  (io)
part B pins: 5 NC, 6 NC, 7 NC, 8 NC, 9 NC, 10 NC, 11 NC, 12 NC

## DS1374C-18#
designator U?
I2C, 32-Bit Binary Counter Watchdog Real-Time Clock, Trickle Charger, Reset Input/Output, 1.8V, 16-Pin SO, -40 to 85 degC, RoHS Qualified; DatasheetVersion: rev4, Aug-2010; PackageVersion: revD, 2010; PackageReference: W16#H2; PackageDescription: 16-Pin Small-Outline IC, Wide (0.3in), 1.27 mm Pitch, SOIC (W), RoHS Qualified; Code_JEDEC: MS-013-AA; Code_IPC: SOIC127P1030-16; ComponentLink1Description: Manufacturer URL; ComponentLink1URL: http://www.maxim-ic.com; ComponentLink2Description: Datasheet; ComponentLink2URL: http://datasheets.maxim-ic.com/en/ds/DS1374-DS1374U.pdf; ComponentLink3Description: Package Specification; ComponentLink3URL: http://pdfserv.maxim-ic.com/package_dwgs/21-0042.PDF
footprint W16#H2_N (SOIC, 16-Leads, Body 10.3x7.5mm, Pitch 1.27mm, IPC Medium Density)
footprint W16#H2_L (SOIC, 16-Leads, Body 10.3x7.5mm, Pitch 1.27mm, IPC High Density)
footprint W16#H2_M (SOIC, 16-Leads, Body 10.3x7.5mm, Pitch 1.27mm, IPC Low Density)
part A pins: 1 SCL (in), 2 ~{INT} (oc), 3 SQW (oc), 4 VCC (power), 13 VBACKUP (power), 14 ~{RST} (oc), 15 GND (power), 16 SDA  (io)
part B pins: 5 NC, 6 NC, 7 NC, 8 NC, 9 NC, 10 NC, 11 NC, 12 NC

## DS1374C-33#
designator U?
I2C, 32-Bit Binary Counter Watchdog Real-Time Clock, Trickle Charger, Reset Input/Output, 3.3V, 16-Pin SO, -40 to 85 degC, RoHS Qualified; DatasheetVersion: rev4, Aug-2010; PackageVersion: revD, 2010; PackageReference: W16#H2; PackageDescription: 16-Pin Small-Outline IC, Wide (0.3in), 1.27 mm Pitch, SOIC (W), RoHS Qualified; Code_JEDEC: MS-013-AA; Code_IPC: SOIC127P1030-16; ComponentLink1Description: Manufacturer URL; ComponentLink1URL: http://www.maxim-ic.com; ComponentLink2Description: Datasheet; ComponentLink2URL: http://datasheets.maxim-ic.com/en/ds/DS1374-DS1374U.pdf; ComponentLink3Description: Package Specification; ComponentLink3URL: http://pdfserv.maxim-ic.com/package_dwgs/21-0042.PDF
footprint W16#H2_N (SOIC, 16-Leads, Body 10.3x7.5mm, Pitch 1.27mm, IPC Medium Density)
footprint W16#H2_L (SOIC, 16-Leads, Body 10.3x7.5mm, Pitch 1.27mm, IPC High Density)
footprint W16#H2_M (SOIC, 16-Leads, Body 10.3x7.5mm, Pitch 1.27mm, IPC Low Density)
part A pins: 1 SCL (in), 2 ~{INT} (oc), 3 SQW (oc), 4 VCC (power), 13 VBACKUP (power), 14 ~{RST} (oc), 15 GND (power), 16 SDA  (io)
part B pins: 5 NC, 6 NC, 7 NC, 8 NC, 9 NC, 10 NC, 11 NC, 12 NC

## DS1374C-33#T&R
designator U?
I2C, 32-Bit Binary Counter Watchdog Real-Time Clock, Trickle Charger, Reset Input/Output, 3.3V, 16-Pin SO, -40 to 85 degC, RoHS Qualified, Reel; DatasheetVersion: rev4, Aug-2010; PackageVersion: revD, 2010; PackageReference: W16#H2; PackageDescription: 16-Pin Small-Outline IC, Wide (0.3in), 1.27 mm Pitch, SOIC (W), RoHS Qualified; Code_JEDEC: MS-013-AA; Code_IPC: SOIC127P1030-16; ComponentLink1Description: Manufacturer URL; ComponentLink1URL: http://www.maxim-ic.com; ComponentLink2Description: Datasheet; ComponentLink2URL: http://datasheets.maxim-ic.com/en/ds/DS1374-DS1374U.pdf; ComponentLink3Description: Package Specification; ComponentLink3URL: http://pdfserv.maxim-ic.com/package_dwgs/21-0042.PDF
footprint W16#H2_N (SOIC, 16-Leads, Body 10.3x7.5mm, Pitch 1.27mm, IPC Medium Density)
footprint W16#H2_L (SOIC, 16-Leads, Body 10.3x7.5mm, Pitch 1.27mm, IPC High Density)
footprint W16#H2_M (SOIC, 16-Leads, Body 10.3x7.5mm, Pitch 1.27mm, IPC Low Density)
part A pins: 1 SCL (in), 2 ~{INT} (oc), 3 SQW (oc), 4 VCC (power), 13 VBACKUP (power), 14 ~{RST} (oc), 15 GND (power), 16 SDA  (io)
part B pins: 5 NC, 6 NC, 7 NC, 8 NC, 9 NC, 10 NC, 11 NC, 12 NC

## DS1374C-33/T&R
designator U?
I2C, 32-Bit Binary Counter Watchdog Real-Time Clock, Trickle Charger, Reset Input/Output, 3.3V, 16-Pin SO, -40 to 85 degC, Reel; DatasheetVersion: rev4, Aug-2010; PackageVersion: revD, 2010; PackageReference: W16-H2; PackageDescription: 16-Pin Small-Outline IC, Wide (0.3in), 1.27 mm Pitch, SOIC (W); Code_JEDEC: MS-013-AA; Code_IPC: SOIC127P1030-16; ComponentLink1Description: Manufacturer URL; ComponentLink1URL: http://www.maxim-ic.com; ComponentLink2Description: Datasheet; ComponentLink2URL: http://datasheets.maxim-ic.com/en/ds/DS1374-DS1374U.pdf; ComponentLink3Description: Package Specification; ComponentLink3URL: http://pdfserv.maxim-ic.com/package_dwgs/21-0042.PDF
footprint W16-H2_N (SOIC, 16-Leads, Body 10.3x7.5mm, Pitch 1.27mm, IPC Medium Density)
footprint W16-H2_L (SOIC, 16-Leads, Body 10.3x7.5mm, Pitch 1.27mm, IPC High Density)
footprint W16-H2_M (SOIC, 16-Leads, Body 10.3x7.5mm, Pitch 1.27mm, IPC Low Density)
part A pins: 1 SCL (in), 2 ~{INT} (oc), 3 SQW (oc), 4 VCC (power), 13 VBACKUP (power), 14 ~{RST} (oc), 15 GND (power), 16 SDA  (io)
part B pins: 5 NC, 6 NC, 7 NC, 8 NC, 9 NC, 10 NC, 11 NC, 12 NC

## DS1374U-3+
designator U?
I2C, 32-Bit Binary Counter Watchdog Real-Time Clock, Trickle Charger, Reset Input/Output, 3.0V, 10-Pin uSOP, -40 to 85 degC, Pb-Free; DatasheetVersion: rev4, Aug-2010; PackageVersion: revL, 2008; PackageReference: U10+2; PackageDescription: 10-Pin Micro-MAX Thin Shrink Small Outline (uSOP), 3 x 3 x 0.85 mm Body, 0.5 mm Pitch, Pb-Free; Code_JEDEC: MO-187-BA; ComponentLink1Description: Manufacturer URL; ComponentLink1URL: http://www.maxim-ic.com; ComponentLink2Description: Datasheet; ComponentLink2URL: http://datasheets.maxim-ic.com/en/ds/DS1374-DS1374U.pdf; ComponentLink3Description: Package Specification; ComponentLink3URL: http://pdfserv.maxim-ic.com/package_dwgs/21-0061.PDF
footprint U10+2_N (TSSOP, 10-Leads, Body 3x3mm, Pitch 0.5mm, IPC Medium Density)
footprint U10+2_L (TSSOP, 10-Leads, Body 3x3mm, Pitch 0.5mm, IPC High Density)
footprint U10+2_M (TSSOP, 10-Leads, Body 3x3mm, Pitch 0.5mm, IPC Low Density)
pins: 1 X1, 2 X2, 3 VBACKUP (power), 4 ~{RST} (oc), 5 GND (power), 6 SDA (io), 7 SCL (in), 8 ~{INT} (oc), 9 SQW (oc), 10 VCC (power)

## DS1374U-3+T&R
designator U?
I2C, 32-Bit Binary Counter Watchdog Real-Time Clock, Trickle Charger, Reset Input/Output, 3.0V, 10-Pin uSOP, -40 to 85 degC, Pb-Free, Reel; DatasheetVersion: rev4, Aug-2010; PackageVersion: revL, 2008; PackageReference: U10+2; PackageDescription: 10-Pin Micro-MAX Thin Shrink Small Outline (uSOP), 3 x 3 x 0.85 mm Body, 0.5 mm Pitch, Pb-Free; Code_JEDEC: MO-187-BA; ComponentLink1Description: Manufacturer URL; ComponentLink1URL: http://www.maxim-ic.com; ComponentLink2Description: Datasheet; ComponentLink2URL: http://datasheets.maxim-ic.com/en/ds/DS1374-DS1374U.pdf; ComponentLink3Description: Package Specification; ComponentLink3URL: http://pdfserv.maxim-ic.com/package_dwgs/21-0061.PDF
footprint U10+2_N (TSSOP, 10-Leads, Body 3x3mm, Pitch 0.5mm, IPC Medium Density)
footprint U10+2_L (TSSOP, 10-Leads, Body 3x3mm, Pitch 0.5mm, IPC High Density)
footprint U10+2_M (TSSOP, 10-Leads, Body 3x3mm, Pitch 0.5mm, IPC Low Density)
pins: 1 X1, 2 X2, 3 VBACKUP (power), 4 ~{RST} (oc), 5 GND (power), 6 SDA (io), 7 SCL (in), 8 ~{INT} (oc), 9 SQW (oc), 10 VCC (power)

## DS1374U-18
designator U?
I2C, 32-Bit Binary Counter Watchdog Real-Time Clock, Trickle Charger, Reset Input/Output, 1.8V, 10-Pin uSOP, -40 to 85 degC; DatasheetVersion: rev4, Aug-2010; PackageVersion: revL, 2008; PackageReference: U10-2; PackageDescription: 10-Pin Micro-MAX Thin Shrink Small Outline (uSOP), 3 x 3 x 0.85 mm Body, 0.5 mm Pitch; Code_JEDEC: MO-187-BA; ComponentLink1Description: Manufacturer URL; ComponentLink1URL: http://www.maxim-ic.com; ComponentLink2Description: Datasheet; ComponentLink2URL: http://datasheets.maxim-ic.com/en/ds/DS1374-DS1374U.pdf; ComponentLink3Description: Package Specification; ComponentLink3URL: http://pdfserv.maxim-ic.com/package_dwgs/21-0061.PDF
footprint U10-2_N (TSSOP, 10-Leads, Body 3x3mm, Pitch 0.5mm, IPC Medium Density)
footprint U10-2_L (TSSOP, 10-Leads, Body 3x3mm, Pitch 0.5mm, IPC High Density)
footprint U10-2_M (TSSOP, 10-Leads, Body 3x3mm, Pitch 0.5mm, IPC Low Density)
pins: 1 X1, 2 X2, 3 VBACKUP (power), 4 ~{RST} (oc), 5 GND (power), 6 SDA (io), 7 SCL (in), 8 ~{INT} (oc), 9 SQW (oc), 10 VCC (power)

## DS1374U-18+
designator U?
I2C, 32-Bit Binary Counter Watchdog Real-Time Clock, Trickle Charger, Reset Input/Output, 1.8V, 10-Pin uSOP, -40 to 85 degC, Pb-Free; DatasheetVersion: rev4, Aug-2010; PackageVersion: revL, 2008; PackageReference: U10+2; PackageDescription: 10-Pin Micro-MAX Thin Shrink Small Outline (uSOP), 3 x 3 x 0.85 mm Body, 0.5 mm Pitch, Pb-Free; Code_JEDEC: MO-187-BA; ComponentLink1Description: Manufacturer URL; ComponentLink1URL: http://www.maxim-ic.com; ComponentLink2Description: Datasheet; ComponentLink2URL: http://datasheets.maxim-ic.com/en/ds/DS1374-DS1374U.pdf; ComponentLink3Description: Package Specification; ComponentLink3URL: http://pdfserv.maxim-ic.com/package_dwgs/21-0061.PDF
footprint U10+2_N (TSSOP, 10-Leads, Body 3x3mm, Pitch 0.5mm, IPC Medium Density)
footprint U10+2_L (TSSOP, 10-Leads, Body 3x3mm, Pitch 0.5mm, IPC High Density)
footprint U10+2_M (TSSOP, 10-Leads, Body 3x3mm, Pitch 0.5mm, IPC Low Density)
pins: 1 X1, 2 X2, 3 VBACKUP (power), 4 ~{RST} (oc), 5 GND (power), 6 SDA (io), 7 SCL (in), 8 ~{INT} (oc), 9 SQW (oc), 10 VCC (power)

## DS1374U-33
designator U?
I2C, 32-Bit Binary Counter Watchdog Real-Time Clock, Trickle Charger, Reset Input/Output, 3.3V, 10-Pin uSOP, -40 to 85 degC; DatasheetVersion: rev4, Aug-2010; PackageVersion: revL, 2008; PackageReference: U10-2; PackageDescription: 10-Pin Micro-MAX Thin Shrink Small Outline (uSOP), 3 x 3 x 0.85 mm Body, 0.5 mm Pitch; Code_JEDEC: MO-187-BA; ComponentLink1Description: Manufacturer URL; ComponentLink1URL: http://www.maxim-ic.com; ComponentLink2Description: Datasheet; ComponentLink2URL: http://datasheets.maxim-ic.com/en/ds/DS1374-DS1374U.pdf; ComponentLink3Description: Package Specification; ComponentLink3URL: http://pdfserv.maxim-ic.com/package_dwgs/21-0061.PDF
footprint U10-2_N (TSSOP, 10-Leads, Body 3x3mm, Pitch 0.5mm, IPC Medium Density)
footprint U10-2_L (TSSOP, 10-Leads, Body 3x3mm, Pitch 0.5mm, IPC High Density)
footprint U10-2_M (TSSOP, 10-Leads, Body 3x3mm, Pitch 0.5mm, IPC Low Density)
pins: 1 X1, 2 X2, 3 VBACKUP (power), 4 ~{RST} (oc), 5 GND (power), 6 SDA (io), 7 SCL (in), 8 ~{INT} (oc), 9 SQW (oc), 10 VCC (power)

## DS1374U-33+
designator U?
I2C, 32-Bit Binary Counter Watchdog Real-Time Clock, Trickle Charger, Reset Input/Output, 3.3V, 10-Pin uSOP, -40 to 85 degC, Pb-Free; DatasheetVersion: rev4, Aug-2010; PackageVersion: revL, 2008; PackageReference: U10+2; PackageDescription: 10-Pin Micro-MAX Thin Shrink Small Outline (uSOP), 3 x 3 x 0.85 mm Body, 0.5 mm Pitch, Pb-Free; Code_JEDEC: MO-187-BA; ComponentLink1Description: Manufacturer URL; ComponentLink1URL: http://www.maxim-ic.com; ComponentLink2Description: Datasheet; ComponentLink2URL: http://datasheets.maxim-ic.com/en/ds/DS1374-DS1374U.pdf; ComponentLink3Description: Package Specification; ComponentLink3URL: http://pdfserv.maxim-ic.com/package_dwgs/21-0061.PDF
footprint U10+2_N (TSSOP, 10-Leads, Body 3x3mm, Pitch 0.5mm, IPC Medium Density)
footprint U10+2_L (TSSOP, 10-Leads, Body 3x3mm, Pitch 0.5mm, IPC High Density)
footprint U10+2_M (TSSOP, 10-Leads, Body 3x3mm, Pitch 0.5mm, IPC Low Density)
pins: 1 X1, 2 X2, 3 VBACKUP (power), 4 ~{RST} (oc), 5 GND (power), 6 SDA (io), 7 SCL (in), 8 ~{INT} (oc), 9 SQW (oc), 10 VCC (power)

## DS1374U-33+T&R
designator U?
I2C, 32-Bit Binary Counter Watchdog Real-Time Clock, Trickle Charger, Reset Input/Output, 3.3V, 10-Pin uSOP, -40 to 85 degC, Pb-Free, Reel; DatasheetVersion: rev4, Aug-2010; PackageVersion: revL, 2008; PackageReference: U10+2; PackageDescription: 10-Pin Micro-MAX Thin Shrink Small Outline (uSOP), 3 x 3 x 0.85 mm Body, 0.5 mm Pitch, Pb-Free; Code_JEDEC: MO-187-BA; ComponentLink1Description: Manufacturer URL; ComponentLink1URL: http://www.maxim-ic.com; ComponentLink2Description: Datasheet; ComponentLink2URL: http://datasheets.maxim-ic.com/en/ds/DS1374-DS1374U.pdf; ComponentLink3Description: Package Specification; ComponentLink3URL: http://pdfserv.maxim-ic.com/package_dwgs/21-0061.PDF
footprint U10+2_N (TSSOP, 10-Leads, Body 3x3mm, Pitch 0.5mm, IPC Medium Density)
footprint U10+2_L (TSSOP, 10-Leads, Body 3x3mm, Pitch 0.5mm, IPC High Density)
footprint U10+2_M (TSSOP, 10-Leads, Body 3x3mm, Pitch 0.5mm, IPC Low Density)
pins: 1 X1, 2 X2, 3 VBACKUP (power), 4 ~{RST} (oc), 5 GND (power), 6 SDA (io), 7 SCL (in), 8 ~{INT} (oc), 9 SQW (oc), 10 VCC (power)

## DS1375T+
designator U?
I2C, Digital Input Real-Time Clock with Alarm, 3.3V, 6-Pin TDFN-EP, -40 to 85 degC, Pb-Free; DatasheetVersion: rev2, Sep-2008; PackageVersion: revJ, 2009; PackageReference: T633+2; PackageDescription: 6-Pin Plastic Very Very Thin Dual Flatpack No Leads, Exposed Pad, 3 x 3 x 0.8 mm Body, TDFN-EP, Pb-Free; Code_JEDEC: MO-229-WEEA; ComponentLink1Description: Manufacturer URL; ComponentLink1URL: http://www.maxim-ic.com; ComponentLink2Description: Datasheet; ComponentLink2URL: http://datasheets.maxim-ic.com/en/ds/DS1375.pdf; ComponentLink3Description: Package Specification; ComponentLink3URL: http://pdfserv.maxim-ic.com/package_dwgs/21-0137.PDF
footprint T633+2_V (SON, 6-Leads, Body 3x3mm, Pitch 0.95mm, Thermal Pad 2.35x1.6mm, Maxim Recommended)
pins: 1 CLK (in), 2 SQW/~{INT} (oc), 3 GND (power), 4 SDA (io), 5 SCL (in), 6 VCC (power), 7 EP (power)

## DS1375T+T&R
designator U?
I2C, Digital Input Real-Time Clock with Alarm, 3.3V, 6-Pin TDFN-EP, -40 to 85 degC, Pb-Free, Reel; DatasheetVersion: rev2, Sep-2008; PackageVersion: revJ, 2009; PackageReference: T633+2; PackageDescription: 6-Pin Plastic Very Very Thin Dual Flatpack No Leads, Exposed Pad, 3 x 3 x 0.8 mm Body, TDFN-EP, Pb-Free; Code_JEDEC: MO-229-WEEA; ComponentLink1Description: Manufacturer URL; ComponentLink1URL: http://www.maxim-ic.com; ComponentLink2Description: Datasheet; ComponentLink2URL: http://datasheets.maxim-ic.com/en/ds/DS1375.pdf; ComponentLink3Description: Package Specification; ComponentLink3URL: http://pdfserv.maxim-ic.com/package_dwgs/21-0137.PDF
footprint T633+2_V (SON, 6-Leads, Body 3x3mm, Pitch 0.95mm, Thermal Pad 2.35x1.6mm, Maxim Recommended)
pins: 1 CLK (in), 2 SQW/~{INT} (oc), 3 GND (power), 4 SDA (io), 5 SCL (in), 6 VCC (power), 7 EP (power)

## DS1388Z-3+
designator U?
I2C Real-Time Clock/Supervisor with Trickle Charger and 512 Byte EEPROM, 3.0V, 8-Pin SO, -40 to 85 degC, Pb-Free; DatasheetVersion: rev3, Aug-2010; PackageVersion: revC, 2010; PackageReference: S8+4; PackageDescription: 8-Pin Small-Outline IC, Narrow (0.15in), 1.27 mm Pitch, SOIC (N), Pb-Free; Code_JEDEC: MS-012-AA; Code_IPC: SOIC127P600-8; ComponentLink1Description: Manufacturer URL; ComponentLink1URL: http://www.maxim-ic.com; ComponentLink2Description: Datasheet; ComponentLink2URL: http://datasheets.maxim-ic.com/en/ds/DS1388.pdf; ComponentLink3Description: Package Specification; ComponentLink3URL: http://pdfserv.maxim-ic.com/package_dwgs/21-0041.PDF
footprint S8+4_N (SOIC, 8-Leads, Body 4.9x3.9mm, Pitch 1.27mm, IPC Medium Density)
footprint S8+4_L (SOIC, 8-Leads, Body 4.9x3.9mm, Pitch 1.27mm, IPC High Density)
footprint S8+4_M (SOIC, 8-Leads, Body 4.9x3.9mm, Pitch 1.27mm, IPC Low Density)
pins: 1 X1, 2 X2, 3 VBACKUP (power), 4 GND (power), 5 SDA (io), 6 SCL (in), 7 ~{RST} (oc), 8 VCC (power)

## DS1388Z-3+T&R
designator U?
I2C Real-Time Clock/Supervisor with Trickle Charger and 512 Byte EEPROM, 3.0V, 8-Pin SO, -40 to 85 degC, Pb-Free, Reel; DatasheetVersion: rev3, Aug-2010; PackageVersion: revC, 2010; PackageReference: S8+4; PackageDescription: 8-Pin Small-Outline IC, Narrow (0.15in), 1.27 mm Pitch, SOIC (N), Pb-Free; Code_JEDEC: MS-012-AA; Code_IPC: SOIC127P600-8; ComponentLink1Description: Manufacturer URL; ComponentLink1URL: http://www.maxim-ic.com; ComponentLink2Description: Datasheet; ComponentLink2URL: http://datasheets.maxim-ic.com/en/ds/DS1388.pdf; ComponentLink3Description: Package Specification; ComponentLink3URL: http://pdfserv.maxim-ic.com/package_dwgs/21-0041.PDF
footprint S8+4_N (SOIC, 8-Leads, Body 4.9x3.9mm, Pitch 1.27mm, IPC Medium Density)
footprint S8+4_L (SOIC, 8-Leads, Body 4.9x3.9mm, Pitch 1.27mm, IPC High Density)
footprint S8+4_M (SOIC, 8-Leads, Body 4.9x3.9mm, Pitch 1.27mm, IPC Low Density)
pins: 1 X1, 2 X2, 3 VBACKUP (power), 4 GND (power), 5 SDA (io), 6 SCL (in), 7 ~{RST} (oc), 8 VCC (power)

## DS1388Z-5+
designator U?
I2C Real-Time Clock/Supervisor with Trickle Charger and 512 Byte EEPROM, 5.0V, 8-Pin SO, -40 to 85 degC, Pb-Free; DatasheetVersion: rev3, Aug-2010; PackageVersion: revC, 2010; PackageReference: S8+4; PackageDescription: 8-Pin Small-Outline IC, Narrow (0.15in), 1.27 mm Pitch, SOIC (N), Pb-Free; Code_JEDEC: MS-012-AA; Code_IPC: SOIC127P600-8; ComponentLink1Description: Manufacturer URL; ComponentLink1URL: http://www.maxim-ic.com; ComponentLink2Description: Datasheet; ComponentLink2URL: http://datasheets.maxim-ic.com/en/ds/DS1388.pdf; ComponentLink3Description: Package Specification; ComponentLink3URL: http://pdfserv.maxim-ic.com/package_dwgs/21-0041.PDF
footprint S8+4_N (SOIC, 8-Leads, Body 4.9x3.9mm, Pitch 1.27mm, IPC Medium Density)
footprint S8+4_L (SOIC, 8-Leads, Body 4.9x3.9mm, Pitch 1.27mm, IPC High Density)
footprint S8+4_M (SOIC, 8-Leads, Body 4.9x3.9mm, Pitch 1.27mm, IPC Low Density)
pins: 1 X1, 2 X2, 3 VBACKUP (power), 4 GND (power), 5 SDA (io), 6 SCL (in), 7 ~{RST} (oc), 8 VCC (power)

## DS1388Z-33+
designator U?
I2C Real-Time Clock/Supervisor with Trickle Charger and 512 Byte EEPROM, 3.3V, 8-Pin SO, -40 to 85 degC, Pb-Free; DatasheetVersion: rev3, Aug-2010; PackageVersion: revC, 2010; PackageReference: S8+4; PackageDescription: 8-Pin Small-Outline IC, Narrow (0.15in), 1.27 mm Pitch, SOIC (N), Pb-Free; Code_JEDEC: MS-012-AA; Code_IPC: SOIC127P600-8; ComponentLink1Description: Manufacturer URL; ComponentLink1URL: http://www.maxim-ic.com; ComponentLink2Description: Datasheet; ComponentLink2URL: http://datasheets.maxim-ic.com/en/ds/DS1388.pdf; ComponentLink3Description: Package Specification; ComponentLink3URL: http://pdfserv.maxim-ic.com/package_dwgs/21-0041.PDF
footprint S8+4_N (SOIC, 8-Leads, Body 4.9x3.9mm, Pitch 1.27mm, IPC Medium Density)
footprint S8+4_L (SOIC, 8-Leads, Body 4.9x3.9mm, Pitch 1.27mm, IPC High Density)
footprint S8+4_M (SOIC, 8-Leads, Body 4.9x3.9mm, Pitch 1.27mm, IPC Low Density)
pins: 1 X1, 2 X2, 3 VBACKUP (power), 4 GND (power), 5 SDA (io), 6 SCL (in), 7 ~{RST} (oc), 8 VCC (power)

## DS1388Z-33+T&R
designator U?
I2C Real-Time Clock/Supervisor with Trickle Charger and 512 Byte EEPROM, 3.3V, 8-Pin SO, -40 to 85 degC, Pb-Free, Reel; DatasheetVersion: rev3, Aug-2010; PackageVersion: revC, 2010; PackageReference: S8+4; PackageDescription: 8-Pin Small-Outline IC, Narrow (0.15in), 1.27 mm Pitch, SOIC (N), Pb-Free; Code_JEDEC: MS-012-AA; Code_IPC: SOIC127P600-8; ComponentLink1Description: Manufacturer URL; ComponentLink1URL: http://www.maxim-ic.com; ComponentLink2Description: Datasheet; ComponentLink2URL: http://datasheets.maxim-ic.com/en/ds/DS1388.pdf; ComponentLink3Description: Package Specification; ComponentLink3URL: http://pdfserv.maxim-ic.com/package_dwgs/21-0041.PDF
footprint S8+4_N (SOIC, 8-Leads, Body 4.9x3.9mm, Pitch 1.27mm, IPC Medium Density)
footprint S8+4_L (SOIC, 8-Leads, Body 4.9x3.9mm, Pitch 1.27mm, IPC High Density)
footprint S8+4_M (SOIC, 8-Leads, Body 4.9x3.9mm, Pitch 1.27mm, IPC Low Density)
pins: 1 X1, 2 X2, 3 VBACKUP (power), 4 GND (power), 5 SDA (io), 6 SCL (in), 7 ~{RST} (oc), 8 VCC (power)

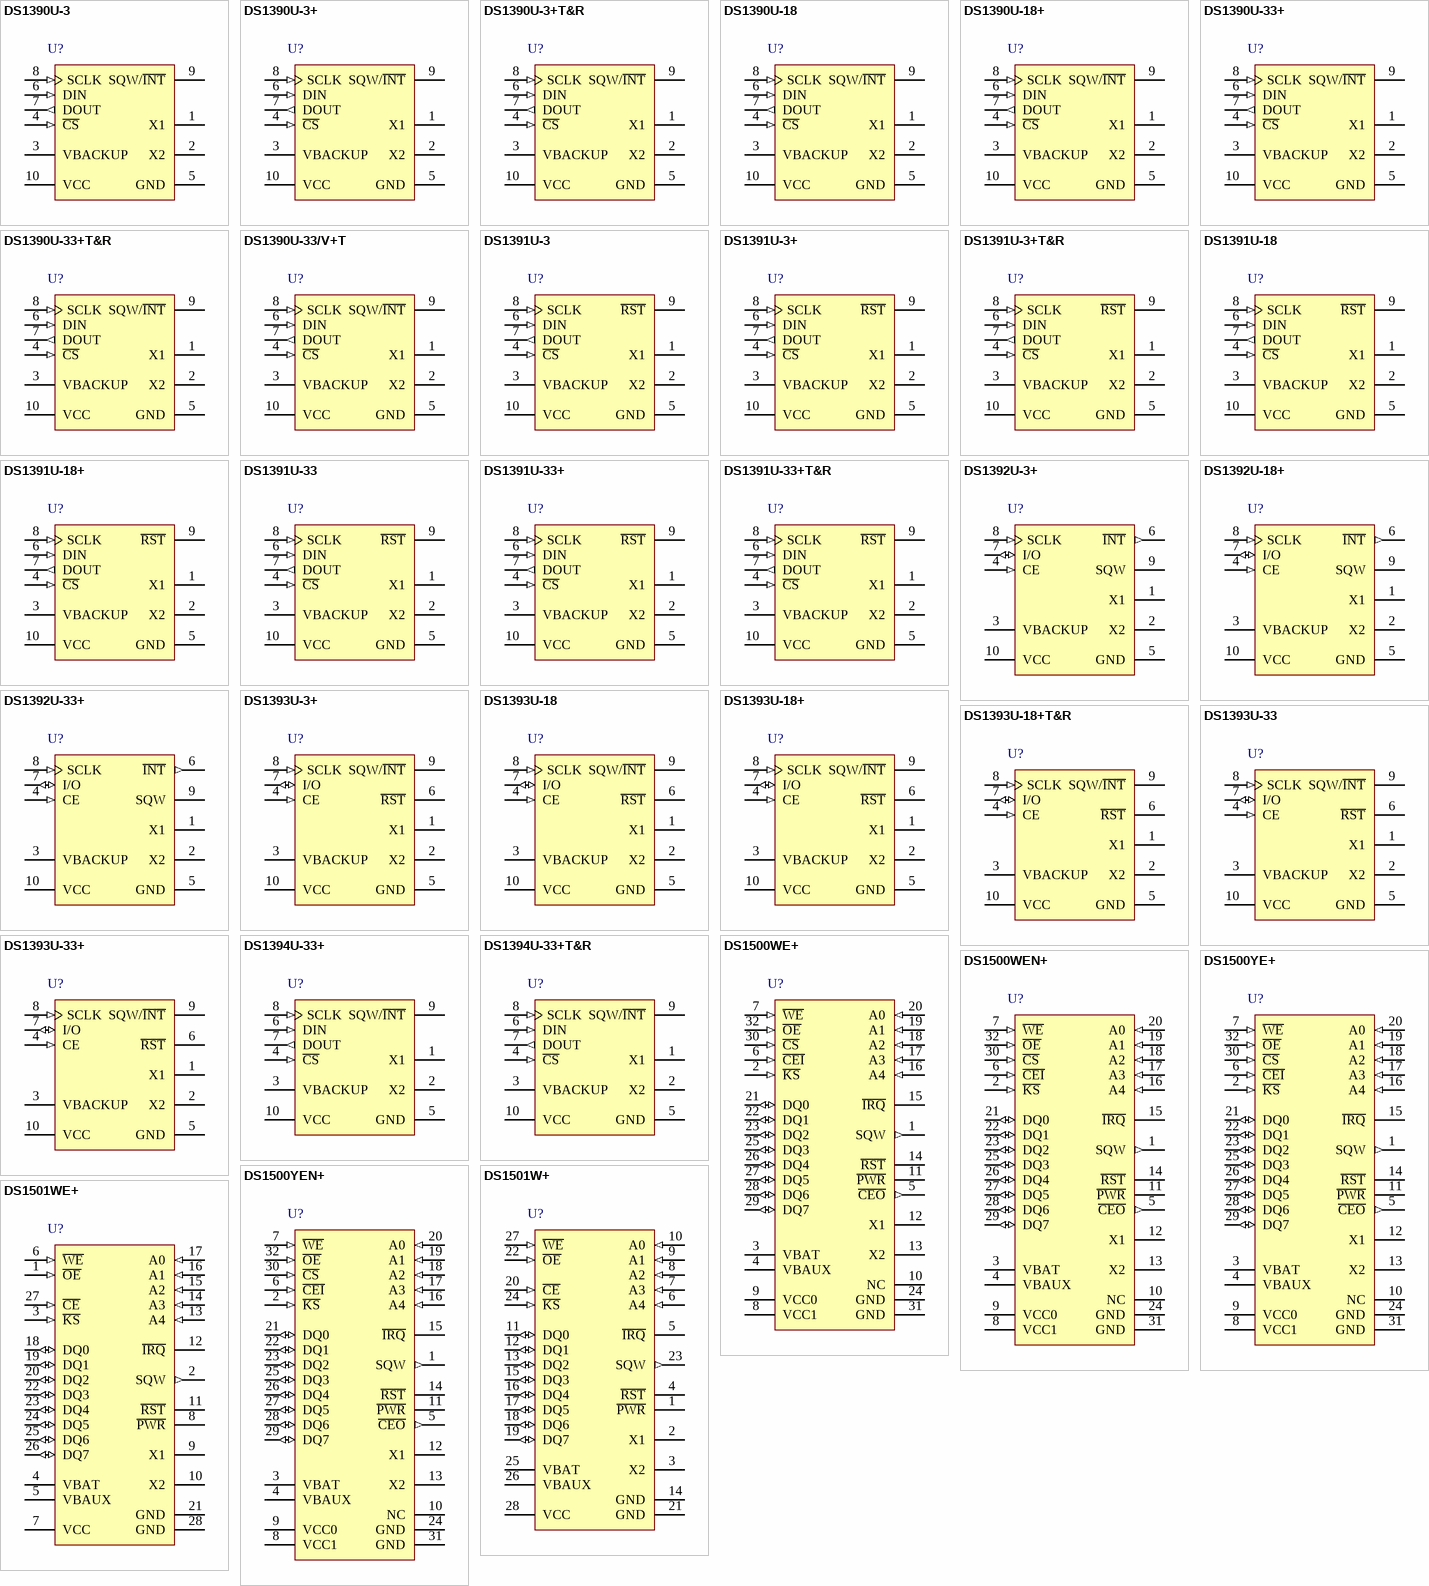
[diagram p8: symbols DS1390U-3 to DS1501WE+]

## DS1390U-3
designator U?
SPI Real-Time Clock with Trickle Charger, 3.0V, 10-Pin uSOP, -40 to 85 degC; DatasheetVersion: rev3, Aug-2009; PackageVersion: revL, 2008; PackageReference: U10-2; PackageDescription: 10-Pin Micro-MAX Thin Shrink Small Outline (uSOP), 3 x 3 x 0.85 mm Body, 0.5 mm Pitch; Code_JEDEC: MO-187-BA; ComponentLink1Description: Manufacturer URL; ComponentLink1URL: http://www.maxim-ic.com; ComponentLink2Description: Datasheet; ComponentLink2URL: http://datasheets.maxim-ic.com/en/ds/DS1390-DS1394.pdf; ComponentLink3Description: Package Specification; ComponentLink3URL: http://pdfserv.maxim-ic.com/package_dwgs/21-0061.PDF
footprint U10-2_N (TSSOP, 10-Leads, Body 3x3mm, Pitch 0.5mm, IPC Medium Density)
footprint U10-2_L (TSSOP, 10-Leads, Body 3x3mm, Pitch 0.5mm, IPC High Density)
footprint U10-2_M (TSSOP, 10-Leads, Body 3x3mm, Pitch 0.5mm, IPC Low Density)
pins: 1 X1, 2 X2, 3 VBACKUP (power), 4 ~{CS} (in), 5 GND (power), 6 DIN (in), 7 DOUT (out), 8 SCLK (in), 9 SQW/~{INT} (oc), 10 VCC (power)

## DS1390U-3+
designator U?
SPI Real-Time Clock with Trickle Charger, 3.0V, 10-Pin uSOP, -40 to 85 degC, Pb-Free; DatasheetVersion: rev3, Aug-2009; PackageVersion: revL, 2008; PackageReference: U10+2; PackageDescription: 10-Pin Micro-MAX Thin Shrink Small Outline (uSOP), 3 x 3 x 0.85 mm Body, 0.5 mm Pitch, Pb-Free; Code_JEDEC: MO-187-BA; ComponentLink1Description: Manufacturer URL; ComponentLink1URL: http://www.maxim-ic.com; ComponentLink2Description: Datasheet; ComponentLink2URL: http://datasheets.maxim-ic.com/en/ds/DS1390-DS1394.pdf; ComponentLink3Description: Package Specification; ComponentLink3URL: http://pdfserv.maxim-ic.com/package_dwgs/21-0061.PDF
footprint U10+2_N (TSSOP, 10-Leads, Body 3x3mm, Pitch 0.5mm, IPC Medium Density)
footprint U10+2_L (TSSOP, 10-Leads, Body 3x3mm, Pitch 0.5mm, IPC High Density)
footprint U10+2_M (TSSOP, 10-Leads, Body 3x3mm, Pitch 0.5mm, IPC Low Density)
pins: 1 X1, 2 X2, 3 VBACKUP (power), 4 ~{CS} (in), 5 GND (power), 6 DIN (in), 7 DOUT (out), 8 SCLK (in), 9 SQW/~{INT} (oc), 10 VCC (power)

## DS1390U-3+T&R
designator U?
SPI Real-Time Clock with Trickle Charger, 3.0V, 10-Pin uSOP, -40 to 85 degC, Pb-Free, Reel; DatasheetVersion: rev3, Aug-2009; PackageVersion: revL, 2008; PackageReference: U10+2; PackageDescription: 10-Pin Micro-MAX Thin Shrink Small Outline (uSOP), 3 x 3 x 0.85 mm Body, 0.5 mm Pitch, Pb-Free; Code_JEDEC: MO-187-BA; ComponentLink1Description: Manufacturer URL; ComponentLink1URL: http://www.maxim-ic.com; ComponentLink2Description: Datasheet; ComponentLink2URL: http://datasheets.maxim-ic.com/en/ds/DS1390-DS1394.pdf; ComponentLink3Description: Package Specification; ComponentLink3URL: http://pdfserv.maxim-ic.com/package_dwgs/21-0061.PDF
footprint U10+2_N (TSSOP, 10-Leads, Body 3x3mm, Pitch 0.5mm, IPC Medium Density)
footprint U10+2_L (TSSOP, 10-Leads, Body 3x3mm, Pitch 0.5mm, IPC High Density)
footprint U10+2_M (TSSOP, 10-Leads, Body 3x3mm, Pitch 0.5mm, IPC Low Density)
pins: 1 X1, 2 X2, 3 VBACKUP (power), 4 ~{CS} (in), 5 GND (power), 6 DIN (in), 7 DOUT (out), 8 SCLK (in), 9 SQW/~{INT} (oc), 10 VCC (power)

## DS1390U-18
designator U?
SPI Real-Time Clock with Trickle Charger, 1.8V, 10-Pin uSOP, -40 to 85 degC; DatasheetVersion: rev3, Aug-2009; PackageVersion: revL, 2008; PackageReference: U10-2; PackageDescription: 10-Pin Micro-MAX Thin Shrink Small Outline (uSOP), 3 x 3 x 0.85 mm Body, 0.5 mm Pitch; Code_JEDEC: MO-187-BA; ComponentLink1Description: Manufacturer URL; ComponentLink1URL: http://www.maxim-ic.com; ComponentLink2Description: Datasheet; ComponentLink2URL: http://datasheets.maxim-ic.com/en/ds/DS1390-DS1394.pdf; ComponentLink3Description: Package Specification; ComponentLink3URL: http://pdfserv.maxim-ic.com/package_dwgs/21-0061.PDF
footprint U10-2_N (TSSOP, 10-Leads, Body 3x3mm, Pitch 0.5mm, IPC Medium Density)
footprint U10-2_L (TSSOP, 10-Leads, Body 3x3mm, Pitch 0.5mm, IPC High Density)
footprint U10-2_M (TSSOP, 10-Leads, Body 3x3mm, Pitch 0.5mm, IPC Low Density)
pins: 1 X1, 2 X2, 3 VBACKUP (power), 4 ~{CS} (in), 5 GND (power), 6 DIN (in), 7 DOUT (out), 8 SCLK (in), 9 SQW/~{INT} (oc), 10 VCC (power)

## DS1390U-18+
designator U?
SPI Real-Time Clock with Trickle Charger, 1.8V, 10-Pin uSOP, -40 to 85 degC, Pb-Free; DatasheetVersion: rev3, Aug-2009; PackageVersion: revL, 2008; PackageReference: U10+2; PackageDescription: 10-Pin Micro-MAX Thin Shrink Small Outline (uSOP), 3 x 3 x 0.85 mm Body, 0.5 mm Pitch, Pb-Free; Code_JEDEC: MO-187-BA; ComponentLink1Description: Manufacturer URL; ComponentLink1URL: http://www.maxim-ic.com; ComponentLink2Description: Datasheet; ComponentLink2URL: http://datasheets.maxim-ic.com/en/ds/DS1390-DS1394.pdf; ComponentLink3Description: Package Specification; ComponentLink3URL: http://pdfserv.maxim-ic.com/package_dwgs/21-0061.PDF
footprint U10+2_N (TSSOP, 10-Leads, Body 3x3mm, Pitch 0.5mm, IPC Medium Density)
footprint U10+2_L (TSSOP, 10-Leads, Body 3x3mm, Pitch 0.5mm, IPC High Density)
footprint U10+2_M (TSSOP, 10-Leads, Body 3x3mm, Pitch 0.5mm, IPC Low Density)
pins: 1 X1, 2 X2, 3 VBACKUP (power), 4 ~{CS} (in), 5 GND (power), 6 DIN (in), 7 DOUT (out), 8 SCLK (in), 9 SQW/~{INT} (oc), 10 VCC (power)

## DS1390U-33+
designator U?
SPI Real-Time Clock with Trickle Charger, 3.3V, 10-Pin uSOP, -40 to 85 degC, Pb-Free; DatasheetVersion: rev3, Aug-2009; PackageVersion: revL, 2008; PackageReference: U10+2; PackageDescription: 10-Pin Micro-MAX Thin Shrink Small Outline (uSOP), 3 x 3 x 0.85 mm Body, 0.5 mm Pitch, Pb-Free; Code_JEDEC: MO-187-BA; ComponentLink1Description: Manufacturer URL; ComponentLink1URL: http://www.maxim-ic.com; ComponentLink2Description: Datasheet; ComponentLink2URL: http://datasheets.maxim-ic.com/en/ds/DS1390-DS1394.pdf; ComponentLink3Description: Package Specification; ComponentLink3URL: http://pdfserv.maxim-ic.com/package_dwgs/21-0061.PDF
footprint U10+2_N (TSSOP, 10-Leads, Body 3x3mm, Pitch 0.5mm, IPC Medium Density)
footprint U10+2_L (TSSOP, 10-Leads, Body 3x3mm, Pitch 0.5mm, IPC High Density)
footprint U10+2_M (TSSOP, 10-Leads, Body 3x3mm, Pitch 0.5mm, IPC Low Density)
pins: 1 X1, 2 X2, 3 VBACKUP (power), 4 ~{CS} (in), 5 GND (power), 6 DIN (in), 7 DOUT (out), 8 SCLK (in), 9 SQW/~{INT} (oc), 10 VCC (power)

## DS1390U-33+T&R
designator U?
SPI Real-Time Clock with Trickle Charger, 3.3V, 10-Pin uSOP, -40 to 85 degC, Pb-Free, Reel; DatasheetVersion: rev3, Aug-2009; PackageVersion: revL, 2008; PackageReference: U10+2; PackageDescription: 10-Pin Micro-MAX Thin Shrink Small Outline (uSOP), 3 x 3 x 0.85 mm Body, 0.5 mm Pitch, Pb-Free; Code_JEDEC: MO-187-BA; ComponentLink1Description: Manufacturer URL; ComponentLink1URL: http://www.maxim-ic.com; ComponentLink2Description: Datasheet; ComponentLink2URL: http://datasheets.maxim-ic.com/en/ds/DS1390-DS1394.pdf; ComponentLink3Description: Package Specification; ComponentLink3URL: http://pdfserv.maxim-ic.com/package_dwgs/21-0061.PDF
footprint U10+2_N (TSSOP, 10-Leads, Body 3x3mm, Pitch 0.5mm, IPC Medium Density)
footprint U10+2_L (TSSOP, 10-Leads, Body 3x3mm, Pitch 0.5mm, IPC High Density)
footprint U10+2_M (TSSOP, 10-Leads, Body 3x3mm, Pitch 0.5mm, IPC Low Density)
pins: 1 X1, 2 X2, 3 VBACKUP (power), 4 ~{CS} (in), 5 GND (power), 6 DIN (in), 7 DOUT (out), 8 SCLK (in), 9 SQW/~{INT} (oc), 10 VCC (power)